# Altium integrated library Integrated_Library1.IntLib: 1 symbol
Pins are listed as number, name and electrical type; pins without a type are passive.

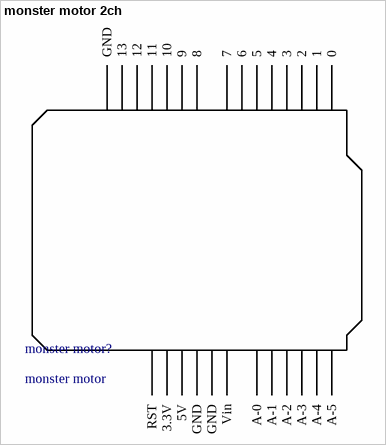
[diagram p0: symbol monster motor 2ch]

## monster motor 2ch
designator monster motor?, comment monster motor
footprint monster motor
pins: 0, 1, 2, 3, 4, 5, 6, 7, 8, 9, 10, 11, 12, 13, 14 GND, 15 A-5, 16 A-4, 17 A-3, 18 A-2, 19 A-1, 20 A-0, 21 Vin, 22 GND, 23 GND, 24 5V, 25 3.3V, 26 RST